# Altium footprint library ITR-8102.PcbLib: 1 footprints
Each footprint in its own frame and in the unit in brackets; x right, y up, seen from the top. Pads: shape width x height; smd on the part's side, far side on the other; paste and mask are expansions set on the pad; w line width, h text height; cw(c..) or ccw(c..) is an arc to the next point about the centre after c.
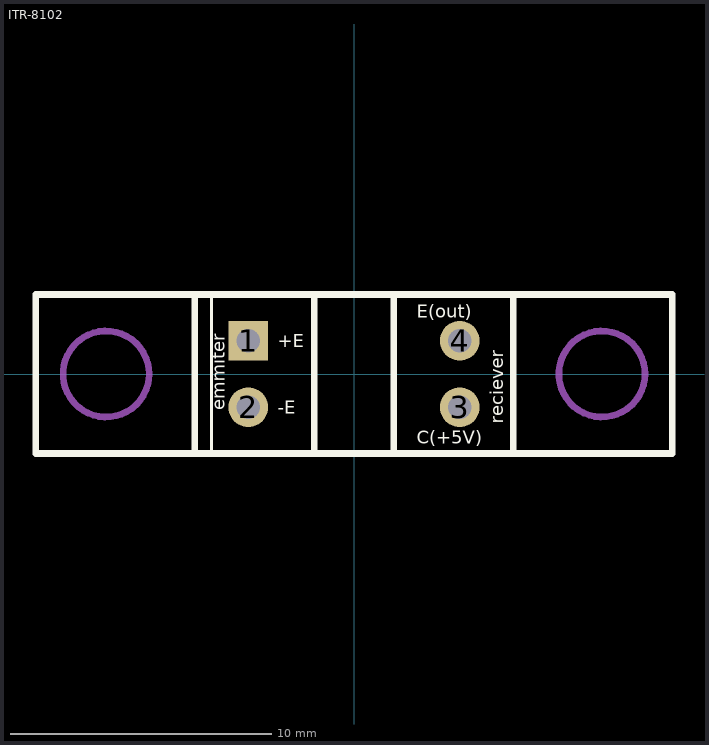
[diagram p0: the footprint, top view; thin cyan lines are the x and y axes]

## ITR-8102 [mil] "IR Opto-coupler"
height 400
pads (4):
  rect 60x60 hole 35.4: 1(-159.45,50)
  round 60 hole 35.4: 2(-159.45,-50) 3(159.45,-50) 4(159.45,50)
Top Overlay:
  lines w5: -215,-120 -215,120
  lines w10: -240,-120 -240,120 ; -60,-120 -60,120 ; 60,-120 60,120 ; 240,-120 240,120 ; -480,-120 480,-120 480,120 -480,120 -480,-120
  text "reciever" at 225,-75 h20
  text "emmiter" at -195,-55 h20
  text "C(+5V)" at 95,-105 h20
  text "E(out)" at 95,85 h20
  text "-E" at -115,-60 h20
  text "+E" at -115,40 h20
Mechanical 1:
  circle w10: c-374.02,0 r64.96
  circle w10: c374.02,0 r64.96